# EAGLE library part CD74HC4511 (library RoboJackets-ICs)
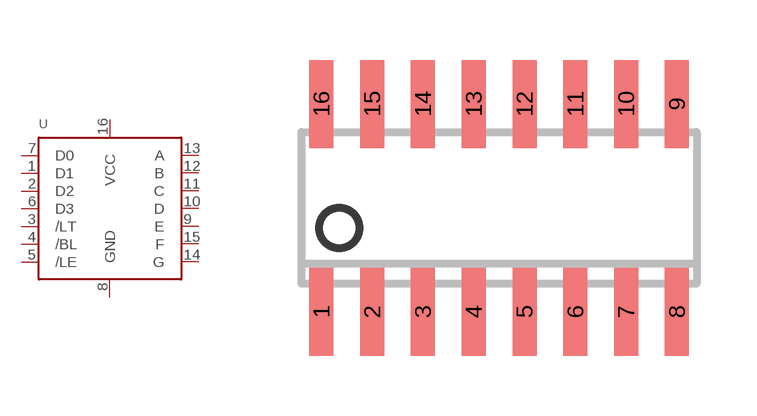
[diagram p10: symbol with the pads of SOIC-16; footprint SOIC-16]

Designator prefix U

## CD74HC4511M96  [SOIC-16]
1  D1
2  D2
3  /LT
4  /BL
5  /LE
6  D3
7  D0
8  GND
9  E
10  D
11  C
12  B
13  A
14  G
15  F
16  VCC

## Footprint SOIC-16 (pad centres in mm)
smd 0.6 x 2.2: 1 -4.445,-2.6; 2 -3.175,-2.6; 3 -1.905,-2.6; 4 -0.635,-2.6; 5 0.635,-2.6; 6 1.905,-2.6; 7 3.175,-2.6; 8 4.445,-2.6; 9 4.445,2.6; 10 3.175,2.6; 11 1.905,2.6; 12 0.635,2.6; 13 -0.635,2.6; 14 -1.905,2.6; 15 -3.175,2.6; 16 -4.445,2.6